# Altium schematic symbol library ST LD1117.SchLib: 1 symbol
Pins are listed as number, name and electrical type; pins without a type are passive.

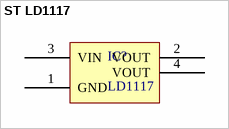
[diagram p0: symbol ST LD1117]

## ST LD1117
designator IC?, comment LD1117
Wide Temperature Three-Pin Adjustable Regulator
pins: 1 GND, 2 VOUT, 3 VIN, 4 VOUT